# Altium schematic symbol library TPS5430DDA.SchLib: 1 symbol
Pins are listed as number, name and electrical type; pins without a type are passive.

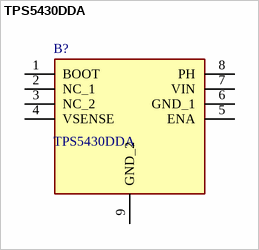
[diagram p0: symbol TPS5430DDA]

## TPS5430DDA
designator B?
TPS5430DDA, Switching Regulator, Buck Controller, 3A, Adjustable, 1.22 to 31V, 500kHz, 8-Pin SOIC; Manufacturer_Name: Texas Instruments; Geometry.Height: 1.7mm; Mouser Part Number: 595-TPS5430DDA; Mouser Price/Stock: https://www.mouser.co.uk/ProductDetail/Texas-Instruments/TPS5430DDA?qs=zwk82MlA57bk5fOPRvfoCA%3D%3D; Manufacturer_Part_Number: TPS5430DDA; Datasheet Link: https://datasheet.datasheetarchive.com/originals/distributors/Datasheets-SFU2/DSASFU100034215.pdf
footprint SOIC127P600X170-9N
pins: 1 BOOT, 2 NC_1, 3 NC_2, 4 VSENSE, 5 ENA, 6 GND_1, 7 VIN, 8 PH, 9 GND_2